# Altium footprint library MOLEX SDA-70553-5PIN.PCBLIB: 1 footprints
Each footprint in its own frame and in the unit in brackets; x right, y up, seen from the top. Pads: shape width x height; smd on the part's side, far side on the other; paste and mask are expansions set on the pad; w line width, h text height; cw(c..) or ccw(c..) is an arc to the next point about the centre after c.
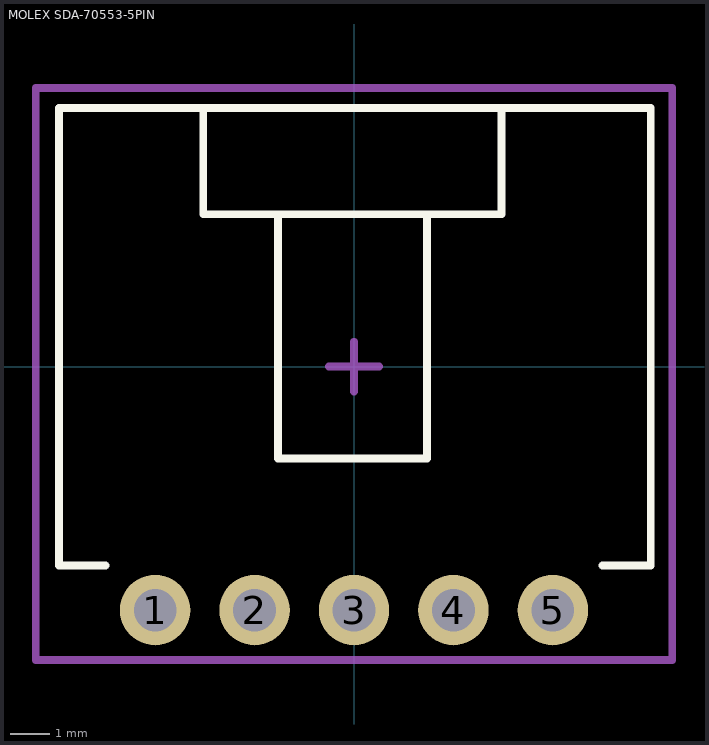
[diagram p0: the footprint, top view; thin cyan lines are the x and y axes]

## MOLEX SDA-70553-5PIN [mm] "SL Right angle header with latch, 0.100 centres, SDA-70553"
height 6.99
pads (5):
  round 1.8 hole 1.09: 1(-5.08,-6.223) 2(-2.54,-6.223) 3(0,-6.223) 4(2.54,-6.223) 5(5.08,-6.223)
Top Overlay:
  lines w0.2: -6.35,-5.08 -7.533,-5.08 -7.533,-4.973 -7.533,6.604 7.58,6.604 7.58,-4.973 7.58,-5.08 6.35,-5.08 ; -3.85,6.55 -3.85,3.892 3.77,3.892 3.77,6.55 ; -1.945,3.892 -1.945,-2.346 1.865,-2.346 1.865,3.892
Mechanical 15:
  lines w0.2: -0.635,0 0.635,0 ; 0,-0.635 0,0.635 ; -8.128,-7.493 -8.128,7.112 8.128,7.112 8.128,-7.493 -8.128,-7.493
3D body "705530004.STEP": height 6.96, standoff -3.32, extent -7.58,-6.973 7.66,6.616